# Altium footprint library MPT-04-01-XX-X-RA-SD.PcbLib: 2 footprints
Each footprint in its own frame and in the unit in brackets; x right, y up, seen from the top. Pads: shape width x height; smd on the part's side, far side on the other; paste and mask are expansions set on the pad; w line width, h text height; cw(c..) or ccw(c..) is an arc to the next point about the centre after c.
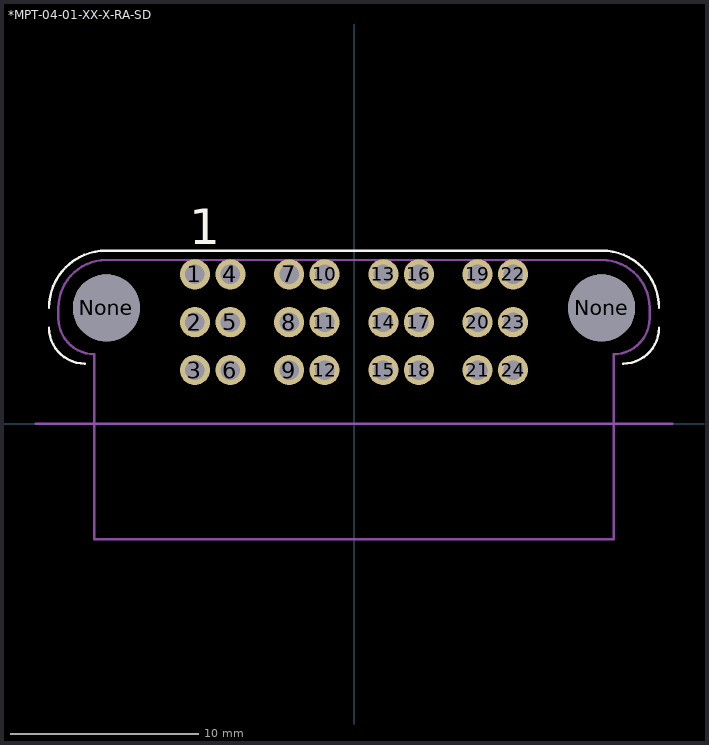
[diagram p0: the footprints below, top view; thin cyan lines are the x and y axes]

## *MPT-04-01-XX-X-RA-SD [mm]
pads (26):
  round 1.6 hole 1.04: 1(-8.44,7.93) 2(-8.44,5.39) 3(-8.44,2.85) 4(-6.56,7.93) 5(-6.56,5.39) 6(-6.56,2.85) 7(-3.44,7.93) 8(-3.44,5.39) 9(-3.44,2.85) 10(-1.56,7.93) 11(-1.56,5.39) 12(-1.56,2.85) 13(1.56,7.93) 14(1.56,5.39) 15(1.56,2.85) 16(3.44,7.93) 17(3.44,5.39) 18(3.44,2.85) 19(6.56,7.93) 20(6.56,5.39) 21(6.56,2.85) 22(8.44,7.93) 23(8.44,5.39) 24(8.44,2.85)
  round 3.56 hole 3.56 unplated: None(-13.14,6.15) None(13.14,6.15)
Top Overlay:
  lines w0.127: -16.18,5.095 ccw(c-14.275,5.095) -14.275,3.19 ; -16.18,6.15 cw(c-13.14,6.15) -13.14,9.19 13.14,9.19 cw(c13.14,6.15) 16.18,6.15 ; 14.275,3.19 ccw(c14.275,5.095) 16.18,5.095
  text "1" at -8.735,9.527 h1.88
Mechanical 13:
  lines w0.127: -15.68,5.595 ccw(c-13.775,5.595) -13.775,3.69 ; -15.68,5.595 ccw(c-13.775,5.595) -13.775,3.69 ; -15.68,5.595 -15.68,6.15 ; -15.68,5.595 -15.68,6.15 ; -15.68,6.15 cw(c-13.14,6.15) -13.14,8.69 ; -15.68,6.15 cw(c-13.14,6.15) -13.14,8.69 ; -13.775,-6.12 13.775,-6.12 ; -13.775,-6.12 -13.775,3.69 ; -13.775,-6.12 13.775,-6.12 ; -13.775,-6.12 -13.775,3.69 ; -13.14,8.69 13.14,8.69 ; -13.14,8.69 13.14,8.69 ; 13.14,8.69 cw(c13.14,6.15) 15.68,6.15 ; 13.14,8.69 cw(c13.14,6.15) 15.68,6.15 ; 13.775,-6.12 13.775,3.69 ; 13.775,-6.12 13.775,3.69 ; 13.775,3.69 ccw(c13.775,5.595) 15.68,5.595 ; 13.775,3.69 ccw(c13.775,5.595) 15.68,5.595 ; 15.68,5.595 15.68,6.15 ; 15.68,5.595 15.68,6.15 ; -16.88,0 16.88,0 -16.88,0

## PCBComponent_1 [mm]